# Altium integrated library Linear Technology Power Management LDO Linear Regulators.IntLib: 2339 symbols (part 58 of 131)
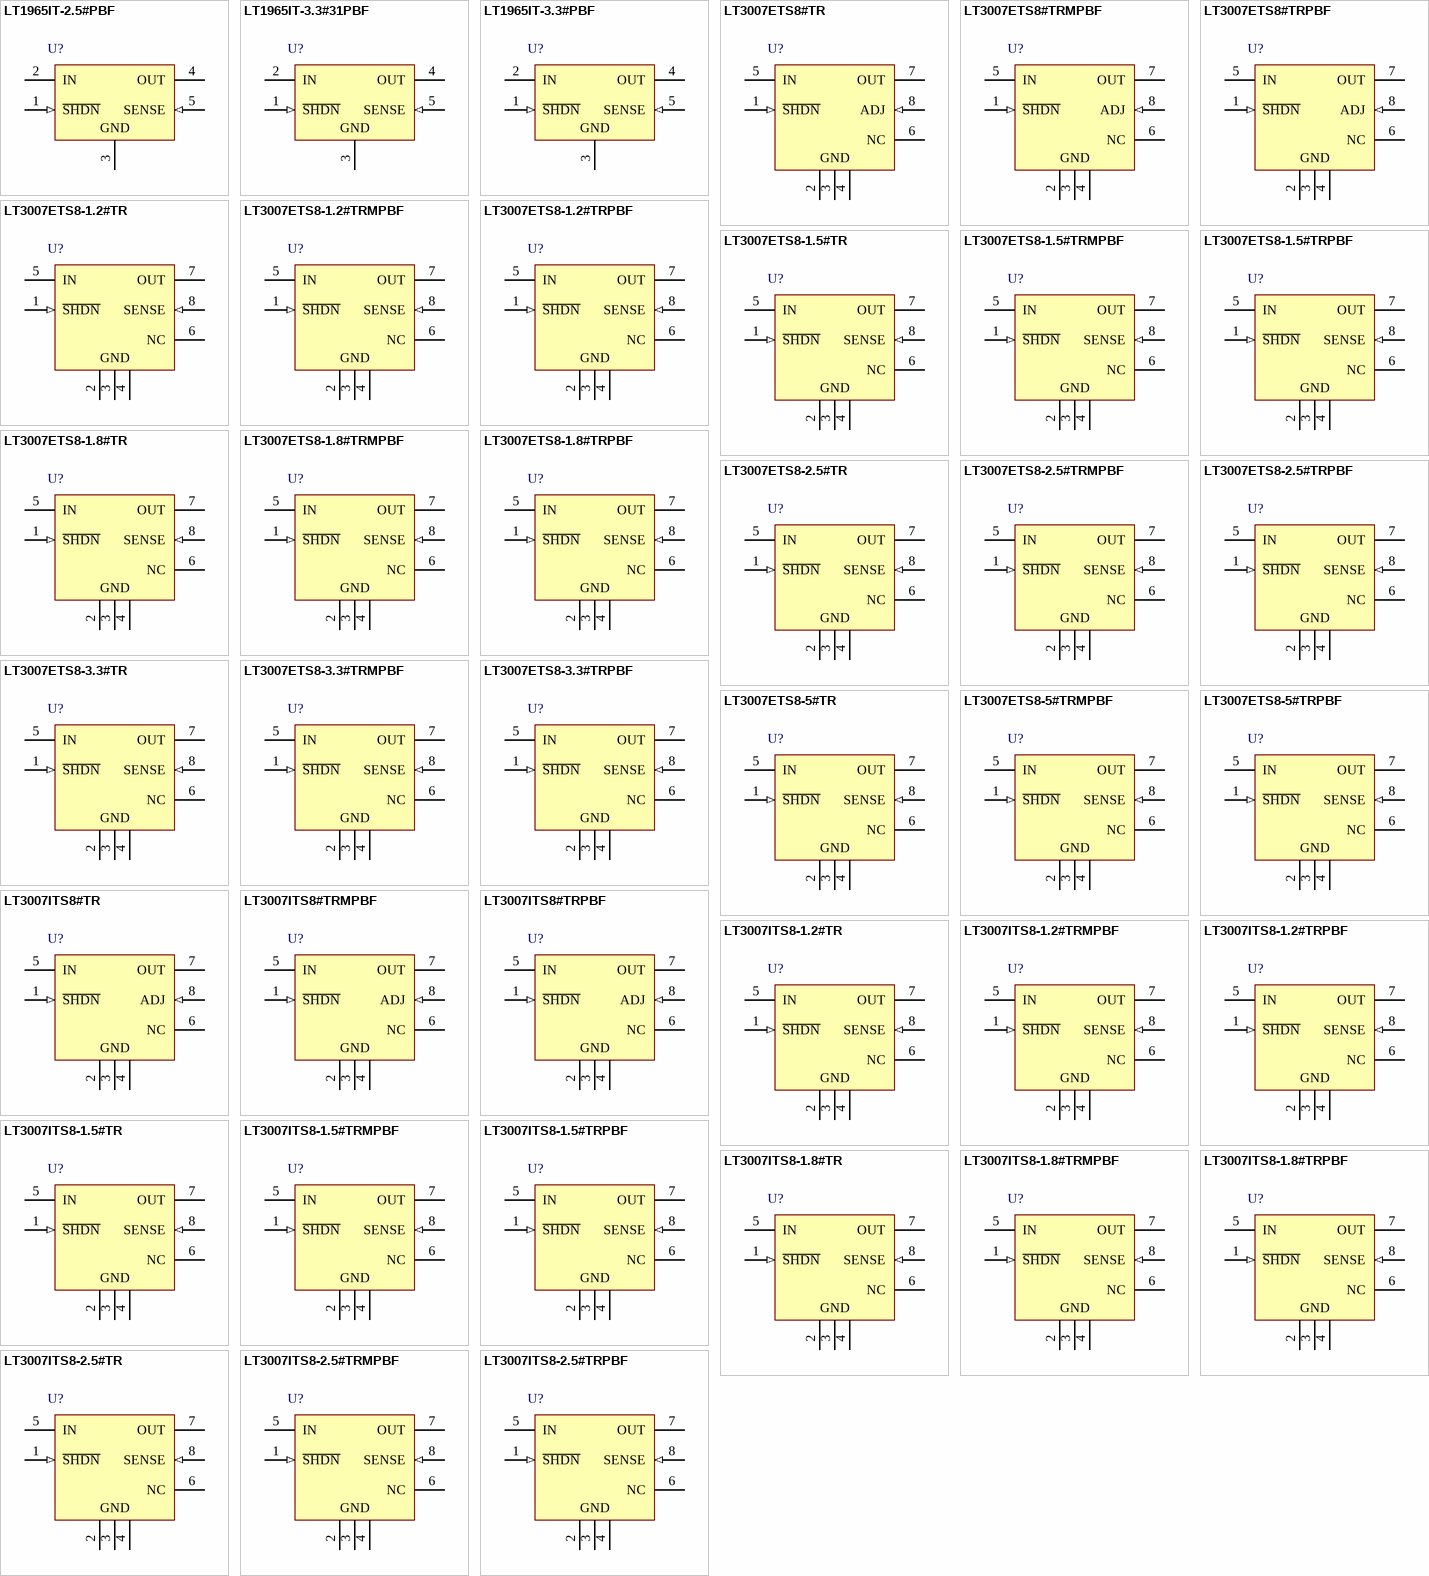
[diagram p126: symbols LT1965IT-2.5#PBF to LT3007ITS8-2.5#TRPBF]

## LT3007ETS8-1.5#TRMPBF
designator U?
3 uA IQ, 20 mA, Low Dropout Fault Tolerant Linear Regulator, 2 to 45 V Vin, 1.5 V Vout, 8-pin SOT23 (TS8-8), -40 to 125 degC, Pb-Free, Mini Tape and Reel; Manufacturer: Linear Technology; PartNumber: LT3007ETS8-1.5#TRMPBF; Discrete Pass Element: no; Dropout Voltage(V): 0.3; Iout(mA): 20; Isupply(mA): 0.003; Noise(uV): 92; Number of Outputs: 1; Output Voltage: 1.5 V; PSRR(dB): 65; Vin Max(V): 45; Vin Min(V): 2; PackageVersion: Rev. A, 08/2010; PackageReference: TS8-8; PackageDescription: 8-Pin Plastic TSOT-23, Body 2.9 x 1.63 mm, Pitch 0.65 mm; Supplier 1: Digi-Key; Supplier Part Number 1: LT3007ETS8-1.5#TRMPBF-ND; Supplier 2: Newark; Supplier Part Number 2: 71W8535; Packing: Mini Tape and Reel; RoHS: TRUE; Shutdown Current(uA): 1; Mounting Technology: Surface Mount; Code_JEDEC: MO-193; ComponentLink1Description: Manufacturer URL; ComponentLink1URL: http://www.linear.com/; ComponentLink2Description: Datasheet; ComponentLink2URL: http://cds.linear.com/docs/en/datasheet/3007f.pdf; ComponentLink3Description: Package Specification; ComponentLink3URL: http://cds.linear.com/docs/en/packaging/SOT_8_05-08-1637.pdf
footprint LT-TS8-8-TSOT-23_V (SOT23, 8-Leads, Body 2.90x1.63mm, Pitch 0.65mm, Recommended)
pins: 1 ~{SHDN} (in) "Shutdown. Pulling the S\H\D\N\ pin low puts the LT3007 into a low power state and turns the output off. If unused, tie the S\H\D\N\ pin to VIN. The LT3007 does not function if the S\H\D\N\ pin is not connected. The S\H\D\N\ (See Datasheet)", 2 GND (power) "Ground. Connect the bottom of the resistor divider that sets output voltage directly to GND for the best regulation.", 3 GND (power) "Ground. Connect the bottom of the resistor divider that sets output voltage directly to GND for the best regulation.", 4 GND (power) "Ground. Connect the bottom of the resistor divider that sets output voltage directly to GND for the best regulation.", 5 IN (power) "Input. The IN pin supplies power to the device. The LT3007 requires a bypass capacitor at IN if the device is more than six inches away from the main input filter capacitor. In general, the output impedance of a battery (See Datasheet)", 6 NC "No Connect. Pin 6 is an NC pin in the TSOT-23  package. This pin is not tied to any internal circuitry. LTC  recommends that the NC pin be floated for fault tolerant  operation.", 7 OUT (power) "Output. This pin supplies power to the load.  Use a minimum output capacitor of 2.2uF to prevent oscillations. Large load transient applications require larger output capacitors to limit peak voltage transients. See the  (See Datasheet)", 8 SENSE (in) "Sense. For fixed voltage versions of the  LT3007 (LT3007-1.2, LT3007-1.5, LT3007-1.8, LT3007-2.5,  LT3007-3.3, LT3007-5), the SENSE pin is the input to the  error amplifier. Optimum regulation is obtained at the point  where (See Datasheet)"

## LT3007ETS8-1.5#TRPBF
designator U?
3 uA IQ, 20 mA, Low Dropout Fault Tolerant Linear Regulator, 2 to 45 V Vin, 1.5 V Vout, 8-pin SOT23 (TS8-8), -40 to 125 degC, Pb-Free, Tape and Reel; Manufacturer: Linear Technology; PartNumber: LT3007ETS8-1.5#TRPBF; Discrete Pass Element: no; Dropout Voltage(V): 0.3; Iout(mA): 20; Isupply(mA): 0.003; Noise(uV): 92; Number of Outputs: 1; Output Voltage: 1.5 V; PSRR(dB): 65; Vin Max(V): 45; Vin Min(V): 2; PackageVersion: Rev. A, 08/2010; PackageReference: TS8-8; PackageDescription: 8-Pin Plastic TSOT-23, Body 2.9 x 1.63 mm, Pitch 0.65 mm; Supplier 1: Digi-Key; Supplier Part Number 1: LT3007ETS8-1.5#TRPBF-ND; Supplier 2: Newark; Supplier Part Number 2: 71W8536; Packing: Tape and Reel; RoHS: TRUE; Shutdown Current(uA): 1; Mounting Technology: Surface Mount; Code_JEDEC: MO-193; ComponentLink1Description: Manufacturer URL; ComponentLink1URL: http://www.linear.com/; ComponentLink2Description: Datasheet; ComponentLink2URL: http://cds.linear.com/docs/en/datasheet/3007f.pdf; ComponentLink3Description: Package Specification; ComponentLink3URL: http://cds.linear.com/docs/en/packaging/SOT_8_05-08-1637.pdf
footprint LT-TS8-8-TSOT-23_V (SOT23, 8-Leads, Body 2.90x1.63mm, Pitch 0.65mm, Recommended)
pins: 1 ~{SHDN} (in) "Shutdown. Pulling the S\H\D\N\ pin low puts the LT3007 into a low power state and turns the output off. If unused, tie the S\H\D\N\ pin to VIN. The LT3007 does not function if the S\H\D\N\ pin is not connected. The S\H\D\N\ (See Datasheet)", 2 GND (power) "Ground. Connect the bottom of the resistor divider that sets output voltage directly to GND for the best regulation.", 3 GND (power) "Ground. Connect the bottom of the resistor divider that sets output voltage directly to GND for the best regulation.", 4 GND (power) "Ground. Connect the bottom of the resistor divider that sets output voltage directly to GND for the best regulation.", 5 IN (power) "Input. The IN pin supplies power to the device. The LT3007 requires a bypass capacitor at IN if the device is more than six inches away from the main input filter capacitor. In general, the output impedance of a battery (See Datasheet)", 6 NC "No Connect. Pin 6 is an NC pin in the TSOT-23  package. This pin is not tied to any internal circuitry. LTC  recommends that the NC pin be floated for fault tolerant  operation.", 7 OUT (power) "Output. This pin supplies power to the load.  Use a minimum output capacitor of 2.2uF to prevent oscillations. Large load transient applications require larger output capacitors to limit peak voltage transients. See the  (See Datasheet)", 8 SENSE (in) "Sense. For fixed voltage versions of the  LT3007 (LT3007-1.2, LT3007-1.5, LT3007-1.8, LT3007-2.5,  LT3007-3.3, LT3007-5), the SENSE pin is the input to the  error amplifier. Optimum regulation is obtained at the point  where (See Datasheet)"

## LT3007ETS8-1.8#TR
designator U?
3 uA IQ, 20 mA, Low Dropout Fault Tolerant Linear Regulator, 2 to 45 V Vin, 1.8 V Vout, 8-pin SOT23 (TS8-8), -40 to 125 degC, Tape and Reel; Manufacturer: Linear Technology; PartNumber: LT3007ETS8-1.8#TR; Discrete Pass Element: no; Dropout Voltage(V): 0.3; Iout(mA): 20; Isupply(mA): 0.003; Noise(uV): 92; Number of Outputs: 1; Output Voltage: 1.8 V; PSRR(dB): 64; Vin Max(V): 45; Vin Min(V): 2; PackageVersion: Rev. A, 08/2010; PackageReference: TS8-8; PackageDescription: 8-Pin Plastic TSOT-23, Body 2.9 x 1.63 mm, Pitch 0.65 mm; Packing: Tape and Reel; RoHS: FALSE; Shutdown Current(uA): 1; Mounting Technology: Surface Mount; Code_JEDEC: MO-193; ComponentLink1Description: Manufacturer URL; ComponentLink1URL: http://www.linear.com/; ComponentLink2Description: Datasheet; ComponentLink2URL: http://cds.linear.com/docs/en/datasheet/3007f.pdf; ComponentLink3Description: Package Specification; ComponentLink3URL: http://cds.linear.com/docs/en/packaging/SOT_8_05-08-1637.pdf
footprint LT-TS8-8-TSOT-23_V (SOT23, 8-Leads, Body 2.90x1.63mm, Pitch 0.65mm, Recommended)
pins: 1 ~{SHDN} (in) "Shutdown. Pulling the S\H\D\N\ pin low puts the LT3007 into a low power state and turns the output off. If unused, tie the S\H\D\N\ pin to VIN. The LT3007 does not function if the S\H\D\N\ pin is not connected. The S\H\D\N\ (See Datasheet)", 2 GND (power) "Ground. Connect the bottom of the resistor divider that sets output voltage directly to GND for the best regulation.", 3 GND (power) "Ground. Connect the bottom of the resistor divider that sets output voltage directly to GND for the best regulation.", 4 GND (power) "Ground. Connect the bottom of the resistor divider that sets output voltage directly to GND for the best regulation.", 5 IN (power) "Input. The IN pin supplies power to the device. The LT3007 requires a bypass capacitor at IN if the device is more than six inches away from the main input filter capacitor. In general, the output impedance of a battery (See Datasheet)", 6 NC "No Connect. Pin 6 is an NC pin in the TSOT-23  package. This pin is not tied to any internal circuitry. LTC  recommends that the NC pin be floated for fault tolerant  operation.", 7 OUT (power) "Output. This pin supplies power to the load.  Use a minimum output capacitor of 2.2uF to prevent oscillations. Large load transient applications require larger output capacitors to limit peak voltage transients. See the  (See Datasheet)", 8 SENSE (in) "Sense. For fixed voltage versions of the  LT3007 (LT3007-1.2, LT3007-1.5, LT3007-1.8, LT3007-2.5,  LT3007-3.3, LT3007-5), the SENSE pin is the input to the  error amplifier. Optimum regulation is obtained at the point  where (See Datasheet)"

## LT3007ETS8-1.8#TRMPBF
designator U?
3 uA IQ, 20 mA, Low Dropout Fault Tolerant Linear Regulator, 2 to 45 V Vin, 1.8 V Vout, 8-pin SOT23 (TS8-8), -40 to 125 degC, Pb-Free, Mini Tape and Reel; Manufacturer: Linear Technology; PartNumber: LT3007ETS8-1.8#TRMPBF; Discrete Pass Element: no; Dropout Voltage(V): 0.3; Iout(mA): 20; Isupply(mA): 0.003; Noise(uV): 92; Number of Outputs: 1; Output Voltage: 1.8 V; PSRR(dB): 64; Vin Max(V): 45; Vin Min(V): 2; PackageVersion: Rev. A, 08/2010; PackageReference: TS8-8; PackageDescription: 8-Pin Plastic TSOT-23, Body 2.9 x 1.63 mm, Pitch 0.65 mm; Supplier 1: Digi-Key; Supplier Part Number 1: LT3007ETS8-1.8#TRMPBF-ND; Supplier 2: Newark; Supplier Part Number 2: 71W8537; Packing: Mini Tape and Reel; RoHS: TRUE; Shutdown Current(uA): 1; Mounting Technology: Surface Mount; Code_JEDEC: MO-193; ComponentLink1Description: Manufacturer URL; ComponentLink1URL: http://www.linear.com/; ComponentLink2Description: Datasheet; ComponentLink2URL: http://cds.linear.com/docs/en/datasheet/3007f.pdf; ComponentLink3Description: Package Specification; ComponentLink3URL: http://cds.linear.com/docs/en/packaging/SOT_8_05-08-1637.pdf
footprint LT-TS8-8-TSOT-23_V (SOT23, 8-Leads, Body 2.90x1.63mm, Pitch 0.65mm, Recommended)
pins: 1 ~{SHDN} (in) "Shutdown. Pulling the S\H\D\N\ pin low puts the LT3007 into a low power state and turns the output off. If unused, tie the S\H\D\N\ pin to VIN. The LT3007 does not function if the S\H\D\N\ pin is not connected. The S\H\D\N\ (See Datasheet)", 2 GND (power) "Ground. Connect the bottom of the resistor divider that sets output voltage directly to GND for the best regulation.", 3 GND (power) "Ground. Connect the bottom of the resistor divider that sets output voltage directly to GND for the best regulation.", 4 GND (power) "Ground. Connect the bottom of the resistor divider that sets output voltage directly to GND for the best regulation.", 5 IN (power) "Input. The IN pin supplies power to the device. The LT3007 requires a bypass capacitor at IN if the device is more than six inches away from the main input filter capacitor. In general, the output impedance of a battery (See Datasheet)", 6 NC "No Connect. Pin 6 is an NC pin in the TSOT-23  package. This pin is not tied to any internal circuitry. LTC  recommends that the NC pin be floated for fault tolerant  operation.", 7 OUT (power) "Output. This pin supplies power to the load.  Use a minimum output capacitor of 2.2uF to prevent oscillations. Large load transient applications require larger output capacitors to limit peak voltage transients. See the  (See Datasheet)", 8 SENSE (in) "Sense. For fixed voltage versions of the  LT3007 (LT3007-1.2, LT3007-1.5, LT3007-1.8, LT3007-2.5,  LT3007-3.3, LT3007-5), the SENSE pin is the input to the  error amplifier. Optimum regulation is obtained at the point  where (See Datasheet)"

## LT3007ETS8-1.8#TRPBF
designator U?
3 uA IQ, 20 mA, Low Dropout Fault Tolerant Linear Regulator, 2 to 45 V Vin, 1.8 V Vout, 8-pin SOT23 (TS8-8), -40 to 125 degC, Pb-Free, Tape and Reel; Manufacturer: Linear Technology; PartNumber: LT3007ETS8-1.8#TRPBF; Discrete Pass Element: no; Dropout Voltage(V): 0.3; Iout(mA): 20; Isupply(mA): 0.003; Noise(uV): 92; Number of Outputs: 1; Output Voltage: 1.8 V; PSRR(dB): 64; Vin Max(V): 45; Vin Min(V): 2; PackageVersion: Rev. A, 08/2010; PackageReference: TS8-8; PackageDescription: 8-Pin Plastic TSOT-23, Body 2.9 x 1.63 mm, Pitch 0.65 mm; Supplier 1: Digi-Key; Supplier Part Number 1: LT3007ETS8-1.8#TRPBF-ND; Supplier 2: Newark; Supplier Part Number 2: 71W8538; Packing: Tape and Reel; RoHS: TRUE; Shutdown Current(uA): 1; Mounting Technology: Surface Mount; Code_JEDEC: MO-193; ComponentLink1Description: Manufacturer URL; ComponentLink1URL: http://www.linear.com/; ComponentLink2Description: Datasheet; ComponentLink2URL: http://cds.linear.com/docs/en/datasheet/3007f.pdf; ComponentLink3Description: Package Specification; ComponentLink3URL: http://cds.linear.com/docs/en/packaging/SOT_8_05-08-1637.pdf
footprint LT-TS8-8-TSOT-23_V (SOT23, 8-Leads, Body 2.90x1.63mm, Pitch 0.65mm, Recommended)
pins: 1 ~{SHDN} (in) "Shutdown. Pulling the S\H\D\N\ pin low puts the LT3007 into a low power state and turns the output off. If unused, tie the S\H\D\N\ pin to VIN. The LT3007 does not function if the S\H\D\N\ pin is not connected. The S\H\D\N\ (See Datasheet)", 2 GND (power) "Ground. Connect the bottom of the resistor divider that sets output voltage directly to GND for the best regulation.", 3 GND (power) "Ground. Connect the bottom of the resistor divider that sets output voltage directly to GND for the best regulation.", 4 GND (power) "Ground. Connect the bottom of the resistor divider that sets output voltage directly to GND for the best regulation.", 5 IN (power) "Input. The IN pin supplies power to the device. The LT3007 requires a bypass capacitor at IN if the device is more than six inches away from the main input filter capacitor. In general, the output impedance of a battery (See Datasheet)", 6 NC "No Connect. Pin 6 is an NC pin in the TSOT-23  package. This pin is not tied to any internal circuitry. LTC  recommends that the NC pin be floated for fault tolerant  operation.", 7 OUT (power) "Output. This pin supplies power to the load.  Use a minimum output capacitor of 2.2uF to prevent oscillations. Large load transient applications require larger output capacitors to limit peak voltage transients. See the  (See Datasheet)", 8 SENSE (in) "Sense. For fixed voltage versions of the  LT3007 (LT3007-1.2, LT3007-1.5, LT3007-1.8, LT3007-2.5,  LT3007-3.3, LT3007-5), the SENSE pin is the input to the  error amplifier. Optimum regulation is obtained at the point  where (See Datasheet)"

## LT3007ETS8-2.5#TR
designator U?
3 uA IQ, 20 mA, Low Dropout Fault Tolerant Linear Regulator, 2 to 45 V Vin, 2.5 V Vout, 8-pin SOT23 (TS8-8), -40 to 125 degC, Tape and Reel; Manufacturer: Linear Technology; PartNumber: LT3007ETS8-2.5#TR; Discrete Pass Element: no; Dropout Voltage(V): 0.3; Iout(mA): 20; Isupply(mA): 0.003; Noise(uV): 92; Number of Outputs: 1; Output Voltage: 2.5 V; PSRR(dB): 61; Vin Max(V): 45; Vin Min(V): 2; PackageVersion: Rev. A, 08/2010; PackageReference: TS8-8; PackageDescription: 8-Pin Plastic TSOT-23, Body 2.9 x 1.63 mm, Pitch 0.65 mm; Packing: Tape and Reel; RoHS: FALSE; Shutdown Current(uA): 1; Mounting Technology: Surface Mount; Code_JEDEC: MO-193; ComponentLink1Description: Manufacturer URL; ComponentLink1URL: http://www.linear.com/; ComponentLink2Description: Datasheet; ComponentLink2URL: http://cds.linear.com/docs/en/datasheet/3007f.pdf; ComponentLink3Description: Package Specification; ComponentLink3URL: http://cds.linear.com/docs/en/packaging/SOT_8_05-08-1637.pdf
footprint LT-TS8-8-TSOT-23_V (SOT23, 8-Leads, Body 2.90x1.63mm, Pitch 0.65mm, Recommended)
pins: 1 ~{SHDN} (in) "Shutdown. Pulling the S\H\D\N\ pin low puts the LT3007 into a low power state and turns the output off. If unused, tie the S\H\D\N\ pin to VIN. The LT3007 does not function if the S\H\D\N\ pin is not connected. The S\H\D\N\ (See Datasheet)", 2 GND (power) "Ground. Connect the bottom of the resistor divider that sets output voltage directly to GND for the best regulation.", 3 GND (power) "Ground. Connect the bottom of the resistor divider that sets output voltage directly to GND for the best regulation.", 4 GND (power) "Ground. Connect the bottom of the resistor divider that sets output voltage directly to GND for the best regulation.", 5 IN (power) "Input. The IN pin supplies power to the device. The LT3007 requires a bypass capacitor at IN if the device is more than six inches away from the main input filter capacitor. In general, the output impedance of a battery (See Datasheet)", 6 NC "No Connect. Pin 6 is an NC pin in the TSOT-23  package. This pin is not tied to any internal circuitry. LTC  recommends that the NC pin be floated for fault tolerant  operation.", 7 OUT (power) "Output. This pin supplies power to the load.  Use a minimum output capacitor of 2.2uF to prevent oscillations. Large load transient applications require larger output capacitors to limit peak voltage transients. See the  (See Datasheet)", 8 SENSE (in) "Sense. For fixed voltage versions of the  LT3007 (LT3007-1.2, LT3007-1.5, LT3007-1.8, LT3007-2.5,  LT3007-3.3, LT3007-5), the SENSE pin is the input to the  error amplifier. Optimum regulation is obtained at the point  where (See Datasheet)"

## LT3007ETS8-2.5#TRMPBF
designator U?
3 uA IQ, 20 mA, Low Dropout Fault Tolerant Linear Regulator, 2 to 45 V Vin, 2.5 V Vout, 8-pin SOT23 (TS8-8), -40 to 125 degC, Pb-Free, Mini Tape and Reel; Manufacturer: Linear Technology; PartNumber: LT3007ETS8-2.5#TRMPBF; Discrete Pass Element: no; Dropout Voltage(V): 0.3; Iout(mA): 20; Isupply(mA): 0.003; Noise(uV): 92; Number of Outputs: 1; Output Voltage: 2.5 V; PSRR(dB): 61; Vin Max(V): 45; Vin Min(V): 2; PackageVersion: Rev. A, 08/2010; PackageReference: TS8-8; PackageDescription: 8-Pin Plastic TSOT-23, Body 2.9 x 1.63 mm, Pitch 0.65 mm; Supplier 1: Digi-Key; Supplier Part Number 1: LT3007ETS8-2.5#TRMPBF-ND; Supplier 2: Newark; Supplier Part Number 2: 71W8539; Packing: Mini Tape and Reel; RoHS: TRUE; Shutdown Current(uA): 1; Mounting Technology: Surface Mount; Code_JEDEC: MO-193; ComponentLink1Description: Manufacturer URL; ComponentLink1URL: http://www.linear.com/; ComponentLink2Description: Datasheet; ComponentLink2URL: http://cds.linear.com/docs/en/datasheet/3007f.pdf; ComponentLink3Description: Package Specification; ComponentLink3URL: http://cds.linear.com/docs/en/packaging/SOT_8_05-08-1637.pdf
footprint LT-TS8-8-TSOT-23_V (SOT23, 8-Leads, Body 2.90x1.63mm, Pitch 0.65mm, Recommended)
pins: 1 ~{SHDN} (in) "Shutdown. Pulling the S\H\D\N\ pin low puts the LT3007 into a low power state and turns the output off. If unused, tie the S\H\D\N\ pin to VIN. The LT3007 does not function if the S\H\D\N\ pin is not connected. The S\H\D\N\ (See Datasheet)", 2 GND (power) "Ground. Connect the bottom of the resistor divider that sets output voltage directly to GND for the best regulation.", 3 GND (power) "Ground. Connect the bottom of the resistor divider that sets output voltage directly to GND for the best regulation.", 4 GND (power) "Ground. Connect the bottom of the resistor divider that sets output voltage directly to GND for the best regulation.", 5 IN (power) "Input. The IN pin supplies power to the device. The LT3007 requires a bypass capacitor at IN if the device is more than six inches away from the main input filter capacitor. In general, the output impedance of a battery (See Datasheet)", 6 NC "No Connect. Pin 6 is an NC pin in the TSOT-23  package. This pin is not tied to any internal circuitry. LTC  recommends that the NC pin be floated for fault tolerant  operation.", 7 OUT (power) "Output. This pin supplies power to the load.  Use a minimum output capacitor of 2.2uF to prevent oscillations. Large load transient applications require larger output capacitors to limit peak voltage transients. See the  (See Datasheet)", 8 SENSE (in) "Sense. For fixed voltage versions of the  LT3007 (LT3007-1.2, LT3007-1.5, LT3007-1.8, LT3007-2.5,  LT3007-3.3, LT3007-5), the SENSE pin is the input to the  error amplifier. Optimum regulation is obtained at the point  where (See Datasheet)"

## LT3007ETS8-2.5#TRPBF
designator U?
3 uA IQ, 20 mA, Low Dropout Fault Tolerant Linear Regulator, 2 to 45 V Vin, 2.5 V Vout, 8-pin SOT23 (TS8-8), -40 to 125 degC, Pb-Free, Tape and Reel; Manufacturer: Linear Technology; PartNumber: LT3007ETS8-2.5#TRPBF; Discrete Pass Element: no; Dropout Voltage(V): 0.3; Iout(mA): 20; Isupply(mA): 0.003; Noise(uV): 92; Number of Outputs: 1; Output Voltage: 2.5 V; PSRR(dB): 61; Vin Max(V): 45; Vin Min(V): 2; PackageVersion: Rev. A, 08/2010; PackageReference: TS8-8; PackageDescription: 8-Pin Plastic TSOT-23, Body 2.9 x 1.63 mm, Pitch 0.65 mm; Supplier 1: Digi-Key; Supplier Part Number 1: LT3007ETS8-2.5#TRPBF-ND; Supplier 2: Newark; Supplier Part Number 2: 71W8540; Packing: Tape and Reel; RoHS: TRUE; Shutdown Current(uA): 1; Mounting Technology: Surface Mount; Code_JEDEC: MO-193; ComponentLink1Description: Manufacturer URL; ComponentLink1URL: http://www.linear.com/; ComponentLink2Description: Datasheet; ComponentLink2URL: http://cds.linear.com/docs/en/datasheet/3007f.pdf; ComponentLink3Description: Package Specification; ComponentLink3URL: http://cds.linear.com/docs/en/packaging/SOT_8_05-08-1637.pdf
footprint LT-TS8-8-TSOT-23_V (SOT23, 8-Leads, Body 2.90x1.63mm, Pitch 0.65mm, Recommended)
pins: 1 ~{SHDN} (in) "Shutdown. Pulling the S\H\D\N\ pin low puts the LT3007 into a low power state and turns the output off. If unused, tie the S\H\D\N\ pin to VIN. The LT3007 does not function if the S\H\D\N\ pin is not connected. The S\H\D\N\ (See Datasheet)", 2 GND (power) "Ground. Connect the bottom of the resistor divider that sets output voltage directly to GND for the best regulation.", 3 GND (power) "Ground. Connect the bottom of the resistor divider that sets output voltage directly to GND for the best regulation.", 4 GND (power) "Ground. Connect the bottom of the resistor divider that sets output voltage directly to GND for the best regulation.", 5 IN (power) "Input. The IN pin supplies power to the device. The LT3007 requires a bypass capacitor at IN if the device is more than six inches away from the main input filter capacitor. In general, the output impedance of a battery (See Datasheet)", 6 NC "No Connect. Pin 6 is an NC pin in the TSOT-23  package. This pin is not tied to any internal circuitry. LTC  recommends that the NC pin be floated for fault tolerant  operation.", 7 OUT (power) "Output. This pin supplies power to the load.  Use a minimum output capacitor of 2.2uF to prevent oscillations. Large load transient applications require larger output capacitors to limit peak voltage transients. See the  (See Datasheet)", 8 SENSE (in) "Sense. For fixed voltage versions of the  LT3007 (LT3007-1.2, LT3007-1.5, LT3007-1.8, LT3007-2.5,  LT3007-3.3, LT3007-5), the SENSE pin is the input to the  error amplifier. Optimum regulation is obtained at the point  where (See Datasheet)"

## LT3007ETS8-3.3#TR
designator U?
3 uA IQ, 20 mA, Low Dropout Fault Tolerant Linear Regulator, 2 to 45 V Vin, 3.3 V Vout, 8-pin SOT23 (TS8-8), -40 to 125 degC, Tape and Reel; Manufacturer: Linear Technology; PartNumber: LT3007ETS8-3.3#TR; Discrete Pass Element: no; Dropout Voltage(V): 0.3; Iout(mA): 20; Isupply(mA): 0.003; Noise(uV): 92; Number of Outputs: 1; Output Voltage: 3.3 V; PSRR(dB): 59; Vin Max(V): 45; Vin Min(V): 2; PackageVersion: Rev. A, 08/2010; PackageReference: TS8-8; PackageDescription: 8-Pin Plastic TSOT-23, Body 2.9 x 1.63 mm, Pitch 0.65 mm; Packing: Tape and Reel; RoHS: FALSE; Shutdown Current(uA): 1; Mounting Technology: Surface Mount; Code_JEDEC: MO-193; ComponentLink1Description: Manufacturer URL; ComponentLink1URL: http://www.linear.com/; ComponentLink2Description: Datasheet; ComponentLink2URL: http://cds.linear.com/docs/en/datasheet/3007f.pdf; ComponentLink3Description: Package Specification; ComponentLink3URL: http://cds.linear.com/docs/en/packaging/SOT_8_05-08-1637.pdf
footprint LT-TS8-8-TSOT-23_V (SOT23, 8-Leads, Body 2.90x1.63mm, Pitch 0.65mm, Recommended)
pins: 1 ~{SHDN} (in) "Shutdown. Pulling the S\H\D\N\ pin low puts the LT3007 into a low power state and turns the output off. If unused, tie the S\H\D\N\ pin to VIN. The LT3007 does not function if the S\H\D\N\ pin is not connected. The S\H\D\N\ (See Datasheet)", 2 GND (power) "Ground. Connect the bottom of the resistor divider that sets output voltage directly to GND for the best regulation.", 3 GND (power) "Ground. Connect the bottom of the resistor divider that sets output voltage directly to GND for the best regulation.", 4 GND (power) "Ground. Connect the bottom of the resistor divider that sets output voltage directly to GND for the best regulation.", 5 IN (power) "Input. The IN pin supplies power to the device. The LT3007 requires a bypass capacitor at IN if the device is more than six inches away from the main input filter capacitor. In general, the output impedance of a battery (See Datasheet)", 6 NC "No Connect. Pin 6 is an NC pin in the TSOT-23  package. This pin is not tied to any internal circuitry. LTC  recommends that the NC pin be floated for fault tolerant  operation.", 7 OUT (power) "Output. This pin supplies power to the load.  Use a minimum output capacitor of 2.2uF to prevent oscillations. Large load transient applications require larger output capacitors to limit peak voltage transients. See the  (See Datasheet)", 8 SENSE (in) "Sense. For fixed voltage versions of the  LT3007 (LT3007-1.2, LT3007-1.5, LT3007-1.8, LT3007-2.5,  LT3007-3.3, LT3007-5), the SENSE pin is the input to the  error amplifier. Optimum regulation is obtained at the point  where (See Datasheet)"

## LT3007ETS8-3.3#TRMPBF
designator U?
3 uA IQ, 20 mA, Low Dropout Fault Tolerant Linear Regulator, 2 to 45 V Vin, 3.3 V Vout, 8-pin SOT23 (TS8-8), -40 to 125 degC, Pb-Free, Mini Tape and Reel; Manufacturer: Linear Technology; PartNumber: LT3007ETS8-3.3#TRMPBF; Discrete Pass Element: no; Dropout Voltage(V): 0.3; Iout(mA): 20; Isupply(mA): 0.003; Noise(uV): 92; Number of Outputs: 1; Output Voltage: 3.3 V; PSRR(dB): 59; Vin Max(V): 45; Vin Min(V): 2; PackageVersion: Rev. A, 08/2010; PackageReference: TS8-8; PackageDescription: 8-Pin Plastic TSOT-23, Body 2.9 x 1.63 mm, Pitch 0.65 mm; Supplier 1: Digi-Key; Supplier Part Number 1: LT3007ETS8-3.3#TRMPBF-ND; Supplier 2: Newark; Supplier Part Number 2: 71W8541; Packing: Mini Tape and Reel; RoHS: TRUE; Shutdown Current(uA): 1; Mounting Technology: Surface Mount; Code_JEDEC: MO-193; ComponentLink1Description: Manufacturer URL; ComponentLink1URL: http://www.linear.com/; ComponentLink2Description: Datasheet; ComponentLink2URL: http://cds.linear.com/docs/en/datasheet/3007f.pdf; ComponentLink3Description: Package Specification; ComponentLink3URL: http://cds.linear.com/docs/en/packaging/SOT_8_05-08-1637.pdf
footprint LT-TS8-8-TSOT-23_V (SOT23, 8-Leads, Body 2.90x1.63mm, Pitch 0.65mm, Recommended)
pins: 1 ~{SHDN} (in) "Shutdown. Pulling the S\H\D\N\ pin low puts the LT3007 into a low power state and turns the output off. If unused, tie the S\H\D\N\ pin to VIN. The LT3007 does not function if the S\H\D\N\ pin is not connected. The S\H\D\N\ (See Datasheet)", 2 GND (power) "Ground. Connect the bottom of the resistor divider that sets output voltage directly to GND for the best regulation.", 3 GND (power) "Ground. Connect the bottom of the resistor divider that sets output voltage directly to GND for the best regulation.", 4 GND (power) "Ground. Connect the bottom of the resistor divider that sets output voltage directly to GND for the best regulation.", 5 IN (power) "Input. The IN pin supplies power to the device. The LT3007 requires a bypass capacitor at IN if the device is more than six inches away from the main input filter capacitor. In general, the output impedance of a battery (See Datasheet)", 6 NC "No Connect. Pin 6 is an NC pin in the TSOT-23  package. This pin is not tied to any internal circuitry. LTC  recommends that the NC pin be floated for fault tolerant  operation.", 7 OUT (power) "Output. This pin supplies power to the load.  Use a minimum output capacitor of 2.2uF to prevent oscillations. Large load transient applications require larger output capacitors to limit peak voltage transients. See the  (See Datasheet)", 8 SENSE (in) "Sense. For fixed voltage versions of the  LT3007 (LT3007-1.2, LT3007-1.5, LT3007-1.8, LT3007-2.5,  LT3007-3.3, LT3007-5), the SENSE pin is the input to the  error amplifier. Optimum regulation is obtained at the point  where (See Datasheet)"

## LT3007ETS8-3.3#TRPBF
designator U?
3 uA IQ, 20 mA, Low Dropout Fault Tolerant Linear Regulator, 2 to 45 V Vin, 3.3 V Vout, 8-pin SOT23 (TS8-8), -40 to 125 degC, Pb-Free, Tape and Reel; Manufacturer: Linear Technology; PartNumber: LT3007ETS8-3.3#TRPBF; Discrete Pass Element: no; Dropout Voltage(V): 0.3; Iout(mA): 20; Isupply(mA): 0.003; Noise(uV): 92; Number of Outputs: 1; Output Voltage: 3.3 V; PSRR(dB): 59; Vin Max(V): 45; Vin Min(V): 2; PackageVersion: Rev. A, 08/2010; PackageReference: TS8-8; PackageDescription: 8-Pin Plastic TSOT-23, Body 2.9 x 1.63 mm, Pitch 0.65 mm; Supplier 1: Digi-Key; Supplier Part Number 1: LT3007ETS8-3.3#TRPBF-ND; Supplier 2: Newark; Supplier Part Number 2: 71W8542; Packing: Tape and Reel; RoHS: TRUE; Shutdown Current(uA): 1; Mounting Technology: Surface Mount; Code_JEDEC: MO-193; ComponentLink1Description: Manufacturer URL; ComponentLink1URL: http://www.linear.com/; ComponentLink2Description: Datasheet; ComponentLink2URL: http://cds.linear.com/docs/en/datasheet/3007f.pdf; ComponentLink3Description: Package Specification; ComponentLink3URL: http://cds.linear.com/docs/en/packaging/SOT_8_05-08-1637.pdf
footprint LT-TS8-8-TSOT-23_V (SOT23, 8-Leads, Body 2.90x1.63mm, Pitch 0.65mm, Recommended)
pins: 1 ~{SHDN} (in) "Shutdown. Pulling the S\H\D\N\ pin low puts the LT3007 into a low power state and turns the output off. If unused, tie the S\H\D\N\ pin to VIN. The LT3007 does not function if the S\H\D\N\ pin is not connected. The S\H\D\N\ (See Datasheet)", 2 GND (power) "Ground. Connect the bottom of the resistor divider that sets output voltage directly to GND for the best regulation.", 3 GND (power) "Ground. Connect the bottom of the resistor divider that sets output voltage directly to GND for the best regulation.", 4 GND (power) "Ground. Connect the bottom of the resistor divider that sets output voltage directly to GND for the best regulation.", 5 IN (power) "Input. The IN pin supplies power to the device. The LT3007 requires a bypass capacitor at IN if the device is more than six inches away from the main input filter capacitor. In general, the output impedance of a battery (See Datasheet)", 6 NC "No Connect. Pin 6 is an NC pin in the TSOT-23  package. This pin is not tied to any internal circuitry. LTC  recommends that the NC pin be floated for fault tolerant  operation.", 7 OUT (power) "Output. This pin supplies power to the load.  Use a minimum output capacitor of 2.2uF to prevent oscillations. Large load transient applications require larger output capacitors to limit peak voltage transients. See the  (See Datasheet)", 8 SENSE (in) "Sense. For fixed voltage versions of the  LT3007 (LT3007-1.2, LT3007-1.5, LT3007-1.8, LT3007-2.5,  LT3007-3.3, LT3007-5), the SENSE pin is the input to the  error amplifier. Optimum regulation is obtained at the point  where (See Datasheet)"

## LT3007ETS8-5#TR
designator U?
3 uA IQ, 20 mA, Low Dropout Fault Tolerant Linear Regulator, 2 to 45 V Vin, 5 V Vout, 8-pin SOT23 (TS8-8), -40 to 125 degC, Tape and Reel; Manufacturer: Linear Technology; PartNumber: LT3007ETS8-5#TR; Discrete Pass Element: no; Dropout Voltage(V): 0.3; Iout(mA): 20; Isupply(mA): 0.003; Noise(uV): 92; Number of Outputs: 1; Output Voltage: 5 V; PSRR(dB): 54; Vin Max(V): 45; Vin Min(V): 2; PackageVersion: Rev. A, 08/2010; PackageReference: TS8-8; PackageDescription: 8-Pin Plastic TSOT-23, Body 2.9 x 1.63 mm, Pitch 0.65 mm; Packing: Tape and Reel; RoHS: FALSE; Shutdown Current(uA): 1; Mounting Technology: Surface Mount; Code_JEDEC: MO-193; ComponentLink1Description: Manufacturer URL; ComponentLink1URL: http://www.linear.com/; ComponentLink2Description: Datasheet; ComponentLink2URL: http://cds.linear.com/docs/en/datasheet/3007f.pdf; ComponentLink3Description: Package Specification; ComponentLink3URL: http://cds.linear.com/docs/en/packaging/SOT_8_05-08-1637.pdf
footprint LT-TS8-8-TSOT-23_V (SOT23, 8-Leads, Body 2.90x1.63mm, Pitch 0.65mm, Recommended)
pins: 1 ~{SHDN} (in) "Shutdown. Pulling the S\H\D\N\ pin low puts the LT3007 into a low power state and turns the output off. If unused, tie the S\H\D\N\ pin to VIN. The LT3007 does not function if the S\H\D\N\ pin is not connected. The S\H\D\N\ (See Datasheet)", 2 GND (power) "Ground. Connect the bottom of the resistor divider that sets output voltage directly to GND for the best regulation.", 3 GND (power) "Ground. Connect the bottom of the resistor divider that sets output voltage directly to GND for the best regulation.", 4 GND (power) "Ground. Connect the bottom of the resistor divider that sets output voltage directly to GND for the best regulation.", 5 IN (power) "Input. The IN pin supplies power to the device. The LT3007 requires a bypass capacitor at IN if the device is more than six inches away from the main input filter capacitor. In general, the output impedance of a battery (See Datasheet)", 6 NC "No Connect. Pin 6 is an NC pin in the TSOT-23  package. This pin is not tied to any internal circuitry. LTC  recommends that the NC pin be floated for fault tolerant  operation.", 7 OUT (power) "Output. This pin supplies power to the load.  Use a minimum output capacitor of 2.2uF to prevent oscillations. Large load transient applications require larger output capacitors to limit peak voltage transients. See the  (See Datasheet)", 8 SENSE (in) "Sense. For fixed voltage versions of the  LT3007 (LT3007-1.2, LT3007-1.5, LT3007-1.8, LT3007-2.5,  LT3007-3.3, LT3007-5), the SENSE pin is the input to the  error amplifier. Optimum regulation is obtained at the point  where (See Datasheet)"

## LT3007ETS8-5#TRMPBF
designator U?
3 uA IQ, 20 mA, Low Dropout Fault Tolerant Linear Regulator, 2 to 45 V Vin, 5 V Vout, 8-pin SOT23 (TS8-8), -40 to 125 degC, Pb-Free, Mini Tape and Reel; Manufacturer: Linear Technology; PartNumber: LT3007ETS8-5#TRMPBF; Discrete Pass Element: no; Dropout Voltage(V): 0.3; Iout(mA): 20; Isupply(mA): 0.003; Noise(uV): 92; Number of Outputs: 1; Output Voltage: 5 V; PSRR(dB): 54; Vin Max(V): 45; Vin Min(V): 2; PackageVersion: Rev. A, 08/2010; PackageReference: TS8-8; PackageDescription: 8-Pin Plastic TSOT-23, Body 2.9 x 1.63 mm, Pitch 0.65 mm; Supplier 1: Digi-Key; Supplier Part Number 1: LT3007ETS8-5#TRMPBF-ND; Supplier 2: Newark; Supplier Part Number 2: 71W8543; Packing: Mini Tape and Reel; RoHS: TRUE; Shutdown Current(uA): 1; Mounting Technology: Surface Mount; Code_JEDEC: MO-193; ComponentLink1Description: Manufacturer URL; ComponentLink1URL: http://www.linear.com/; ComponentLink2Description: Datasheet; ComponentLink2URL: http://cds.linear.com/docs/en/datasheet/3007f.pdf; ComponentLink3Description: Package Specification; ComponentLink3URL: http://cds.linear.com/docs/en/packaging/SOT_8_05-08-1637.pdf
footprint LT-TS8-8-TSOT-23_V (SOT23, 8-Leads, Body 2.90x1.63mm, Pitch 0.65mm, Recommended)
pins: 1 ~{SHDN} (in) "Shutdown. Pulling the S\H\D\N\ pin low puts the LT3007 into a low power state and turns the output off. If unused, tie the S\H\D\N\ pin to VIN. The LT3007 does not function if the S\H\D\N\ pin is not connected. The S\H\D\N\ (See Datasheet)", 2 GND (power) "Ground. Connect the bottom of the resistor divider that sets output voltage directly to GND for the best regulation.", 3 GND (power) "Ground. Connect the bottom of the resistor divider that sets output voltage directly to GND for the best regulation.", 4 GND (power) "Ground. Connect the bottom of the resistor divider that sets output voltage directly to GND for the best regulation.", 5 IN (power) "Input. The IN pin supplies power to the device. The LT3007 requires a bypass capacitor at IN if the device is more than six inches away from the main input filter capacitor. In general, the output impedance of a battery (See Datasheet)", 6 NC "No Connect. Pin 6 is an NC pin in the TSOT-23  package. This pin is not tied to any internal circuitry. LTC  recommends that the NC pin be floated for fault tolerant  operation.", 7 OUT (power) "Output. This pin supplies power to the load.  Use a minimum output capacitor of 2.2uF to prevent oscillations. Large load transient applications require larger output capacitors to limit peak voltage transients. See the  (See Datasheet)", 8 SENSE (in) "Sense. For fixed voltage versions of the  LT3007 (LT3007-1.2, LT3007-1.5, LT3007-1.8, LT3007-2.5,  LT3007-3.3, LT3007-5), the SENSE pin is the input to the  error amplifier. Optimum regulation is obtained at the point  where (See Datasheet)"

## LT3007ETS8-5#TRPBF
designator U?
3 uA IQ, 20 mA, Low Dropout Fault Tolerant Linear Regulator, 2 to 45 V Vin, 5 V Vout, 8-pin SOT23 (TS8-8), -40 to 125 degC, Pb-Free, Tape and Reel; Manufacturer: Linear Technology; PartNumber: LT3007ETS8-5#TRPBF; Discrete Pass Element: no; Dropout Voltage(V): 0.3; Iout(mA): 20; Isupply(mA): 0.003; Noise(uV): 92; Number of Outputs: 1; Output Voltage: 5 V; PSRR(dB): 54; Vin Max(V): 45; Vin Min(V): 2; PackageVersion: Rev. A, 08/2010; PackageReference: TS8-8; PackageDescription: 8-Pin Plastic TSOT-23, Body 2.9 x 1.63 mm, Pitch 0.65 mm; Supplier 1: Digi-Key; Supplier Part Number 1: LT3007ETS8-5#TRPBF-ND; Supplier 2: Newark; Supplier Part Number 2: 71W8544; Packing: Tape and Reel; RoHS: TRUE; Shutdown Current(uA): 1; Mounting Technology: Surface Mount; Code_JEDEC: MO-193; ComponentLink1Description: Manufacturer URL; ComponentLink1URL: http://www.linear.com/; ComponentLink2Description: Datasheet; ComponentLink2URL: http://cds.linear.com/docs/en/datasheet/3007f.pdf; ComponentLink3Description: Package Specification; ComponentLink3URL: http://cds.linear.com/docs/en/packaging/SOT_8_05-08-1637.pdf
footprint LT-TS8-8-TSOT-23_V (SOT23, 8-Leads, Body 2.90x1.63mm, Pitch 0.65mm, Recommended)
pins: 1 ~{SHDN} (in) "Shutdown. Pulling the S\H\D\N\ pin low puts the LT3007 into a low power state and turns the output off. If unused, tie the S\H\D\N\ pin to VIN. The LT3007 does not function if the S\H\D\N\ pin is not connected. The S\H\D\N\ (See Datasheet)", 2 GND (power) "Ground. Connect the bottom of the resistor divider that sets output voltage directly to GND for the best regulation.", 3 GND (power) "Ground. Connect the bottom of the resistor divider that sets output voltage directly to GND for the best regulation.", 4 GND (power) "Ground. Connect the bottom of the resistor divider that sets output voltage directly to GND for the best regulation.", 5 IN (power) "Input. The IN pin supplies power to the device. The LT3007 requires a bypass capacitor at IN if the device is more than six inches away from the main input filter capacitor. In general, the output impedance of a battery (See Datasheet)", 6 NC "No Connect. Pin 6 is an NC pin in the TSOT-23  package. This pin is not tied to any internal circuitry. LTC  recommends that the NC pin be floated for fault tolerant  operation.", 7 OUT (power) "Output. This pin supplies power to the load.  Use a minimum output capacitor of 2.2uF to prevent oscillations. Large load transient applications require larger output capacitors to limit peak voltage transients. See the  (See Datasheet)", 8 SENSE (in) "Sense. For fixed voltage versions of the  LT3007 (LT3007-1.2, LT3007-1.5, LT3007-1.8, LT3007-2.5,  LT3007-3.3, LT3007-5), the SENSE pin is the input to the  error amplifier. Optimum regulation is obtained at the point  where (See Datasheet)"

## LT3007ITS8#TR
designator U?
3 uA IQ, 20 mA, Low Dropout Fault Tolerant Linear Regulator, 2 to 45 V Vin, Adjustable Vout, 8-pin SOT23 (TS8-8), -40 to 125 degC, Tape and Reel; Manufacturer: Linear Technology; PartNumber: LT3007ITS8#TR; Discrete Pass Element: no; Dropout Voltage(V): 0.3; Iout(mA): 20; Isupply(mA): 0.003; Noise(uV): 92; Number of Outputs: 1; Output Voltage: Adj; PSRR(dB): 70; Vin Max(V): 45; Vin Min(V): 2; Vout Max(V): 44.5; Vout Min(V): 0.6; PackageVersion: Rev. A, 08/2010; PackageReference: TS8-8; PackageDescription: 8-Pin Plastic TSOT-23, Body 2.9 x 1.63 mm, Pitch 0.65 mm; Packing: Tape and Reel; RoHS: FALSE; Shutdown Current(uA): 1; Mounting Technology: Surface Mount; Code_JEDEC: MO-193; ComponentLink1Description: Manufacturer URL; ComponentLink1URL: http://www.linear.com/; ComponentLink2Description: Datasheet; ComponentLink2URL: http://cds.linear.com/docs/en/datasheet/3007f.pdf; ComponentLink3Description: Package Specification; ComponentLink3URL: http://cds.linear.com/docs/en/packaging/SOT_8_05-08-1637.pdf
footprint LT-TS8-8-TSOT-23_V (SOT23, 8-Leads, Body 2.90x1.63mm, Pitch 0.65mm, Recommended)
pins: 1 ~{SHDN} (in) "Shutdown. Pulling the S\H\D\N\ pin low puts the LT3007 into a low power state and turns the output off. If unused, tie the S\H\D\N\ pin to VIN. The LT3007 does not function if the S\H\D\N\ pin is not connected. The S\H\D\N\ (See Datasheet)", 2 GND (power) "Ground. Connect the bottom of the resistor divider that sets output voltage directly to GND for the best regulation.", 3 GND (power) "Ground. Connect the bottom of the resistor divider that sets output voltage directly to GND for the best regulation.", 4 GND (power) "Ground. Connect the bottom of the resistor divider that sets output voltage directly to GND for the best regulation.", 5 IN (power) "Input. The IN pin supplies power to the device. The LT3007 requires a bypass capacitor at IN if the device is more than six inches away from the main input filter capacitor. In general, the output impedance of a battery (See Datasheet)", 6 NC "No Connect. Pin 6 is an NC pin in the TSOT-23  package. This pin is not tied to any internal circuitry. LTC  recommends that the NC pin be floated for fault tolerant  operation.", 7 OUT (power) "Output. This pin supplies power to the load.  Use a minimum output capacitor of 2.2uF to prevent oscillations. Large load transient applications require larger output capacitors to limit peak voltage transients. See the  (See Datasheet)", 8 ADJ (in) "Adjust. This pin is the error amplifier’s inverting  terminal. Its 400pA typical input bias current flows out of the pin (see curve of ADJ Pin Bias Current vs Temperature  in the Typical Performance Characteristic(See Datasheet)"

## LT3007ITS8#TRMPBF
designator U?
3 uA IQ, 20 mA, Low Dropout Fault Tolerant Linear Regulator, 2 to 45 V Vin, Adjustable Vout, 8-pin SOT23 (TS8-8), -40 to 125 degC, Pb-Free, Mini Tape and Reel; Manufacturer: Linear Technology; PartNumber: LT3007ITS8#TRMPBF; Discrete Pass Element: no; Dropout Voltage(V): 0.3; Iout(mA): 20; Isupply(mA): 0.003; Noise(uV): 92; Number of Outputs: 1; Output Voltage: Adj; PSRR(dB): 70; Vin Max(V): 45; Vin Min(V): 2; Vout Max(V): 44.5; Vout Min(V): 0.6; PackageVersion: Rev. A, 08/2010; PackageReference: TS8-8; PackageDescription: 8-Pin Plastic TSOT-23, Body 2.9 x 1.63 mm, Pitch 0.65 mm; Supplier 1: Digi-Key; Supplier Part Number 1: LT3007ITS8#TRMPBF-ND; Supplier 2: Newark; Supplier Part Number 2: 71W8559; Packing: Mini Tape and Reel; RoHS: TRUE; Shutdown Current(uA): 1; Mounting Technology: Surface Mount; Code_JEDEC: MO-193; ComponentLink1Description: Manufacturer URL; ComponentLink1URL: http://www.linear.com/; ComponentLink2Description: Datasheet; ComponentLink2URL: http://cds.linear.com/docs/en/datasheet/3007f.pdf; ComponentLink3Description: Package Specification; ComponentLink3URL: http://cds.linear.com/docs/en/packaging/SOT_8_05-08-1637.pdf
footprint LT-TS8-8-TSOT-23_V (SOT23, 8-Leads, Body 2.90x1.63mm, Pitch 0.65mm, Recommended)
pins: 1 ~{SHDN} (in) "Shutdown. Pulling the S\H\D\N\ pin low puts the LT3007 into a low power state and turns the output off. If unused, tie the S\H\D\N\ pin to VIN. The LT3007 does not function if the S\H\D\N\ pin is not connected. The S\H\D\N\ (See Datasheet)", 2 GND (power) "Ground. Connect the bottom of the resistor divider that sets output voltage directly to GND for the best regulation.", 3 GND (power) "Ground. Connect the bottom of the resistor divider that sets output voltage directly to GND for the best regulation.", 4 GND (power) "Ground. Connect the bottom of the resistor divider that sets output voltage directly to GND for the best regulation.", 5 IN (power) "Input. The IN pin supplies power to the device. The LT3007 requires a bypass capacitor at IN if the device is more than six inches away from the main input filter capacitor. In general, the output impedance of a battery (See Datasheet)", 6 NC "No Connect. Pin 6 is an NC pin in the TSOT-23  package. This pin is not tied to any internal circuitry. LTC  recommends that the NC pin be floated for fault tolerant  operation.", 7 OUT (power) "Output. This pin supplies power to the load.  Use a minimum output capacitor of 2.2uF to prevent oscillations. Large load transient applications require larger output capacitors to limit peak voltage transients. See the  (See Datasheet)", 8 ADJ (in) "Adjust. This pin is the error amplifier’s inverting  terminal. Its 400pA typical input bias current flows out of the pin (see curve of ADJ Pin Bias Current vs Temperature  in the Typical Performance Characteristic(See Datasheet)"

## LT3007ITS8#TRPBF
designator U?
3 uA IQ, 20 mA, Low Dropout Fault Tolerant Linear Regulator, 2 to 45 V Vin, Adjustable Vout, 8-pin SOT23 (TS8-8), -40 to 125 degC, Pb-Free, Tape and Reel; Manufacturer: Linear Technology; PartNumber: LT3007ITS8#TRPBF; Discrete Pass Element: no; Dropout Voltage(V): 0.3; Iout(mA): 20; Isupply(mA): 0.003; Noise(uV): 92; Number of Outputs: 1; Output Voltage: Adj; PSRR(dB): 70; Vin Max(V): 45; Vin Min(V): 2; Vout Max(V): 44.5; Vout Min(V): 0.6; PackageVersion: Rev. A, 08/2010; PackageReference: TS8-8; PackageDescription: 8-Pin Plastic TSOT-23, Body 2.9 x 1.63 mm, Pitch 0.65 mm; Supplier 1: Digi-Key; Supplier Part Number 1: LT3007ITS8#TRPBF-ND; Supplier 2: Newark; Supplier Part Number 2: 71W8560; Packing: Tape and Reel; RoHS: TRUE; Shutdown Current(uA): 1; Mounting Technology: Surface Mount; Code_JEDEC: MO-193; ComponentLink1Description: Manufacturer URL; ComponentLink1URL: http://www.linear.com/; ComponentLink2Description: Datasheet; ComponentLink2URL: http://cds.linear.com/docs/en/datasheet/3007f.pdf; ComponentLink3Description: Package Specification; ComponentLink3URL: http://cds.linear.com/docs/en/packaging/SOT_8_05-08-1637.pdf
footprint LT-TS8-8-TSOT-23_V (SOT23, 8-Leads, Body 2.90x1.63mm, Pitch 0.65mm, Recommended)
pins: 1 ~{SHDN} (in) "Shutdown. Pulling the S\H\D\N\ pin low puts the LT3007 into a low power state and turns the output off. If unused, tie the S\H\D\N\ pin to VIN. The LT3007 does not function if the S\H\D\N\ pin is not connected. The S\H\D\N\ (See Datasheet)", 2 GND (power) "Ground. Connect the bottom of the resistor divider that sets output voltage directly to GND for the best regulation.", 3 GND (power) "Ground. Connect the bottom of the resistor divider that sets output voltage directly to GND for the best regulation.", 4 GND (power) "Ground. Connect the bottom of the resistor divider that sets output voltage directly to GND for the best regulation.", 5 IN (power) "Input. The IN pin supplies power to the device. The LT3007 requires a bypass capacitor at IN if the device is more than six inches away from the main input filter capacitor. In general, the output impedance of a battery (See Datasheet)", 6 NC "No Connect. Pin 6 is an NC pin in the TSOT-23  package. This pin is not tied to any internal circuitry. LTC  recommends that the NC pin be floated for fault tolerant  operation.", 7 OUT (power) "Output. This pin supplies power to the load.  Use a minimum output capacitor of 2.2uF to prevent oscillations. Large load transient applications require larger output capacitors to limit peak voltage transients. See the  (See Datasheet)", 8 ADJ (in) "Adjust. This pin is the error amplifier’s inverting  terminal. Its 400pA typical input bias current flows out of the pin (see curve of ADJ Pin Bias Current vs Temperature  in the Typical Performance Characteristic(See Datasheet)"